# EAGLE library part LPR403AL (library m_ic-signal)
LPR403AL MEMS motion sensor: dual-axis pitch and roll ±30 dps analog gyroscope Features: 2.7 V to 3.6 V single-supply operation Wide operating temperature range (-40 °C to +85 °C) High stability over temperature Analog absolute angular-rate outputs Two separate outputs for each axis (1x and 4x amplified) Integrated low-pass filters Low power consumption Embedded power-down Embedded self-test Sleep mode High shock and vibration survivability ECOP ACK® RoHS and ?Green? compliant (see Section 6)
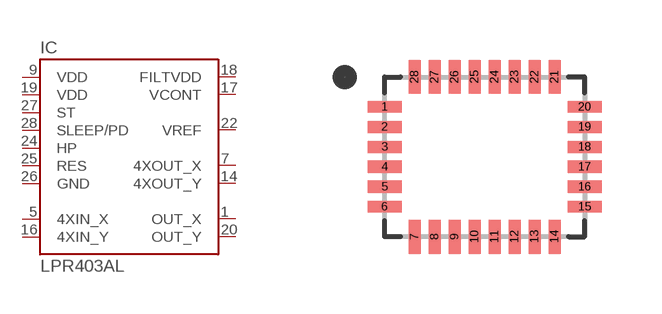
[diagram p4: symbol with the pads of LGA-28_ST; footprint LGA-28_ST]

Designator prefix IC

## LPR403AL (MANUF: ST,LPR403AL;; PARTNUM: LPR403AL)  [LGA-28_ST]
1  OUT_X
5  4XIN_X
7  4XOUT_X
9  VDD
14  4XOUT_Y
16  4XIN_Y
17  VCONT
18  FILTVDD
19  VDD
20  OUT_Y
22  VREF
24  HP
25  RES
26  GND
27  ST
28  SLEEP/PD

## Footprint LGA-28_ST (pad centres in mm)
LGA-28 Package, from ST LPR403AL Datasheet With elongated pads for hand soldering.
smd 0.85 x 0.3: 1 -2.5,1.25; 2 -2.5,0.75; 3 -2.5,0.25; 4 -2.5,-0.25; 5 -2.5,-0.75; 6 -2.5,-1.25; 15 2.5,-1.25; 16 2.5,-0.75; 17 2.5,-0.25; 18 2.5,0.25; 19 2.5,0.75; 20 2.5,1.25
smd 0.3 x 0.85: 7 -1.75,-2; 8 -1.25,-2; 9 -0.75,-2; 10 -0.25,-2; 11 0.25,-2; 12 0.75,-2; 13 1.25,-2; 14 1.75,-2; 21 1.75,2; 22 1.25,2; 23 0.75,2; 24 0.25,2; 25 -0.25,2; 26 -0.75,2; 27 -1.25,2; 28 -1.75,2